# Altium schematic symbol library LS05-23BxxDR3.SchLib: 1 symbol
Pins are listed as number, name and electrical type; pins without a type are passive.

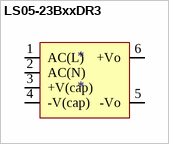
[diagram p0: symbol LS05-23BxxDR3]

## LS05-23BxxDR3
designator *
pins: 1 AC(L), 2 AC(N), 3 +V(cap), 4 -V(cap), 5 -Vo, 6 +Vo